# EAGLE library part HMC1043 (library hmc1043)
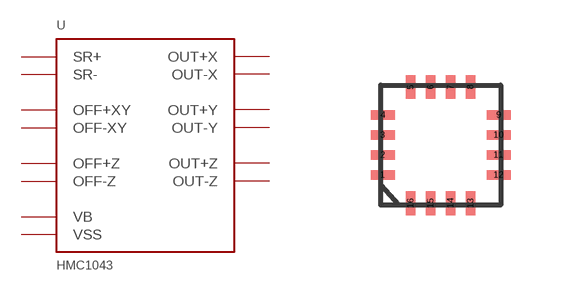
[diagram p0: symbol with the pads of 16-PIN_LPCC; footprint 16-PIN_LPCC]

Designator prefix -

## HMC1043  [16-PIN_LPCC]
1  OUT-Y
2  VSS
3  OUT+X
4  OFF-XY
5  SR+
6  OUT+Y
7  SR-
10  OUT-Z
11  OUT+Z
12  VB
13  OFF-Z
14  OFF+Z
15  OUT-X
16  OFF+XY

## Footprint 16-PIN_LPCC (pad centres in mm)
smd 0.6 x 0.23: 1 0.05,0.75; 2 0.05,1.25; 3 0.05,1.75; 4 0.05,2.25; 9 2.95,2.25; 10 2.95,1.75; 11 2.95,1.25; 12 2.95,0.75
smd 0.23 x 0.6: 5 0.75,2.95; 6 1.25,2.95; 7 1.75,2.95; 8 2.25,2.95; 13 2.25,0.05; 14 1.75,0.05; 15 1.25,0.05; 16 0.75,0.05